# EAGLE library part DRV8313PWPR (library DRV8313PWPR)
2.5A Three Phase Brushless DC Motor Driver (PWM Ctrl) Source: Datasheet <http://www.ti.com/lit/gpn/drv8313>
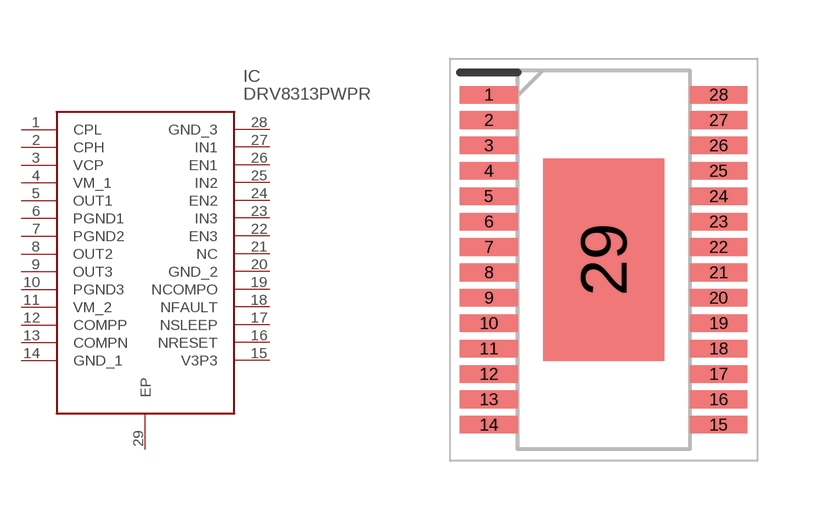
[diagram p0: symbol with the pads of SOP65P640X120-29N; footprint SOP65P640X120-29N]

Designator prefix IC

## DRV8313PWPR (Description: 2.5A Three Phase Brushless DC Motor Driver (PWM Ctrl); Height: 1.2mm; Manufacturer_Name: Texas Instruments; Manufacturer_Part_Number: DRV8313PWPR)  [SOP65P640X120-29N]
1  CPL
2  CPH
3  VCP
4  VM_1
5  OUT1
6  PGND1
7  PGND2
8  OUT2
9  OUT3
10  PGND3
11  VM_2
12  COMPP
13  COMPN
14  GND_1
15  V3P3
16  NRESET
17  NSLEEP
18  NFAULT
19  NCOMPO
20  GND_2
21  NC  nc
22  EN3
23  IN3
24  EN2
25  IN2
26  EN1
27  IN1
28  GND_3
29  EP

## Footprint SOP65P640X120-29N (pad centres in mm)
PWP-ren1
smd 1.475 x 0.45: 1 -2.938,4.225; 2 -2.938,3.575; 3 -2.938,2.925; 4 -2.938,2.275; 5 -2.938,1.625; 6 -2.938,0.975; 7 -2.938,0.325; 8 -2.938,-0.325; 9 -2.938,-0.975; 10 -2.938,-1.625; 11 -2.938,-2.275; 12 -2.938,-2.925; 13 -2.938,-3.575; 14 -2.938,-4.225; 15 2.938,-4.225; 16 2.938,-3.575; 17 2.938,-2.925; 18 2.938,-2.275; 19 2.938,-1.625; 20 2.938,-0.975; 21 2.938,-0.325; 22 2.938,0.325; 23 2.938,0.975; 24 2.938,1.625; 25 2.938,2.275; 26 2.938,2.925; 27 2.938,3.575; 28 2.938,4.225
smd 3.1 x 5.18: 29 0,0